# EAGLE library part M68AW128M (library st-microelectronics)
2 Mbit (128K x16) 3.0V Asynchronous SRAM Source: Source: http://us.st.com/stonline/products/literature/ds/7995.pdf
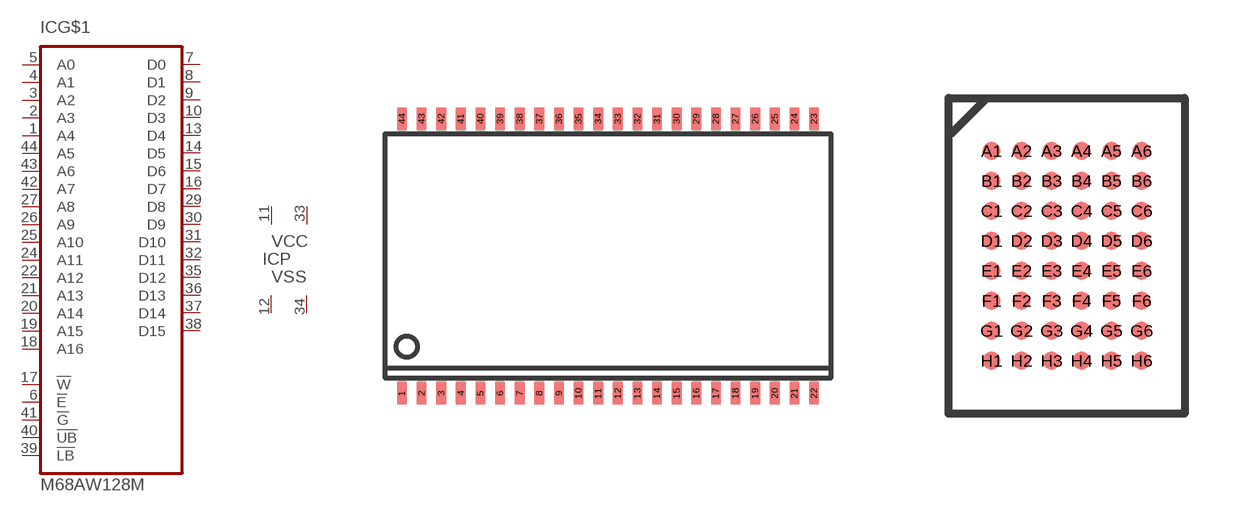
[diagram p40: symbol with the pads of TSOP44-II; footprints TSOP44-II, TFBGA48]

Designator prefix IC; gates G$1=M68AW128M P=VCC2-VSS2

## M68AW128MND (OC_FARNELL: unknown; OC_NEWARK: unknown)  [TSOP44-II]
1  G$1:A4  in
2  G$1:A3  in
3  G$1:A2  in
4  G$1:A1  in
5  G$1:A0  in
6  G$1:!E  in
7  G$1:D0  hiz
8  G$1:D1  hiz
9  G$1:D2  hiz
10  G$1:D3  hiz
11  P:VCC  pwr
12  P:VSS  pwr
13  G$1:D4  hiz
14  G$1:D5  hiz
15  G$1:D6  hiz
16  G$1:D7  hiz
17  G$1:!W  in
18  G$1:A16  in
19  G$1:A15  in
20  G$1:A14  in
21  G$1:A13  in
22  G$1:A12  in
24  G$1:A11  in
25  G$1:A10  in
26  G$1:A9  in
27  G$1:A8  in
29  G$1:D8  hiz
30  G$1:D9  hiz
31  G$1:D10  hiz
32  G$1:D11  hiz
33  P:VCC  pwr
34  P:VSS  pwr
35  G$1:D12  hiz
36  G$1:D13  hiz
37  G$1:D14  hiz
38  G$1:D15  hiz
39  G$1:!LB  in
40  G$1:!UB  in
41  G$1:!G  in
42  G$1:A7  in
43  G$1:A6  in
44  G$1:A5  in

## M68AW128MZB (MPN: M68AW128ML70ZB6; OC_FARNELL: unknown; OC_NEWARK: 37M5198)  [TFBGA48]
A1  G$1:!LB  in
A2  G$1:!G  in
A3  G$1:A0  in
A4  G$1:A1  in
A5  G$1:A2  in
B1  G$1:D8  hiz
B2  G$1:!UB  in
B3  G$1:A3  in
B4  G$1:A4  in
B5  G$1:!E  in
B6  G$1:D0  hiz
C1  G$1:D9  hiz
C2  G$1:D10  hiz
C3  G$1:A5  in
C4  G$1:A6  in
C5  G$1:D1  hiz
C6  G$1:D2  hiz
D1  P:VSS  pwr
D2  G$1:D11  hiz
D4  G$1:A7  in
D5  G$1:D3  hiz
D6  P:VCC  pwr
E1  P:VCC  pwr
E2  G$1:D12  hiz
E4  G$1:A16  in
E5  G$1:D4  hiz
E6  P:VSS  pwr
F1  G$1:D14  hiz
F2  G$1:D13  hiz
F3  G$1:A14  in
F4  G$1:A15  in
F5  G$1:D5  hiz
F6  G$1:D6  hiz
G1  G$1:D15  hiz
G3  G$1:A12  in
G4  G$1:A13  in
G5  G$1:!W  in
G6  G$1:D7  hiz
H2  G$1:A8  in
H3  G$1:A9  in
H4  G$1:A10  in
H5  G$1:A11  in

## Footprint TSOP44-II (pad centres in mm)
44 lead Plastic Thin Small Outline Type II Source: http://us.st.com/stonline/products/literature/ds/7995.pdf
smd 0.4 x 0.9: 1 -8.4,-5.6; 2 -7.6,-5.6; 3 -6.8,-5.6; 4 -6,-5.6; 5 -5.2,-5.6; 6 -4.4,-5.6; 7 -3.6,-5.6; 8 -2.8,-5.6; 9 -2,-5.6; 10 -1.2,-5.6; 11 -0.4,-5.6; 12 0.4,-5.6; 13 1.2,-5.6; 14 2,-5.6; 15 2.8,-5.6; 16 3.6,-5.6; 17 4.4,-5.6; 18 5.2,-5.6; 19 6,-5.6; 20 6.8,-5.6; 21 7.6,-5.6; 22 8.4,-5.6; 23 8.4,5.6; 24 7.6,5.6; 25 6.8,5.6; 26 6,5.6; 27 5.2,5.6; 28 4.4,5.6; 29 3.6,5.6; 30 2.8,5.6; 31 2,5.6; 32 1.2,5.6; 33 0.4,5.6; 34 -0.4,5.6; 35 -1.2,5.6; 36 -2,5.6; 37 -2.8,5.6; 38 -3.6,5.6; 39 -4.4,5.6; 40 -5.2,5.6; 41 -6,5.6; 42 -6.8,5.6; 43 -7.6,5.6; 44 -8.4,5.6

## Footprint TFBGA48 (pad centres in mm)
TFBGA48 6x8mm - 6x8 Active Ball Array, 0.75mm pitch Source: http://us.st.com/stonline/products/literature/ds/7995.pdf
smd 0.45 x 0.45: A1 -1.875,2.625; A2 -1.125,2.625; A3 -0.375,2.625; A4 0.375,2.625; A5 1.125,2.625; A6 1.875,2.625; B1 -1.875,1.875; B2 -1.125,1.875; B3 -0.375,1.875; B4 0.375,1.875; B5 1.125,1.875; B6 1.875,1.875; C1 -1.875,1.125; C2 -1.125,1.125; C3 -0.375,1.125; C4 0.375,1.125; C5 1.125,1.125; C6 1.875,1.125; D1 -1.875,0.375; D2 -1.125,0.375; D3 -0.375,0.375; D4 0.375,0.375; D5 1.125,0.375; D6 1.875,0.375; E1 -1.875,-0.375; E2 -1.125,-0.375; E3 -0.375,-0.375; E4 0.375,-0.375; E5 1.125,-0.375; E6 1.875,-0.375; F1 -1.875,-1.125; F2 -1.125,-1.125; F3 -0.375,-1.125; F4 0.375,-1.125; F5 1.125,-1.125; F6 1.875,-1.125; G1 -1.875,-1.875; G2 -1.125,-1.875; G3 -0.375,-1.875; G4 0.375,-1.875; G5 1.125,-1.875; G6 1.875,-1.875; H1 -1.875,-2.625; H2 -1.125,-2.625; H3 -0.375,-2.625; H4 0.375,-2.625; H5 1.125,-2.625; H6 1.875,-2.625